# Altium footprint library EE311_footprints.PcbLib: 35 footprints (part 3 of 3)
Each footprint in its own frame and in the unit in brackets; x right, y up, seen from the top. Pads: shape width x height; smd on the part's side, far side on the other; paste and mask are expansions set on the pad; w line width, h text height; cw(c..) or ccw(c..) is an arc to the next point about the centre after c.
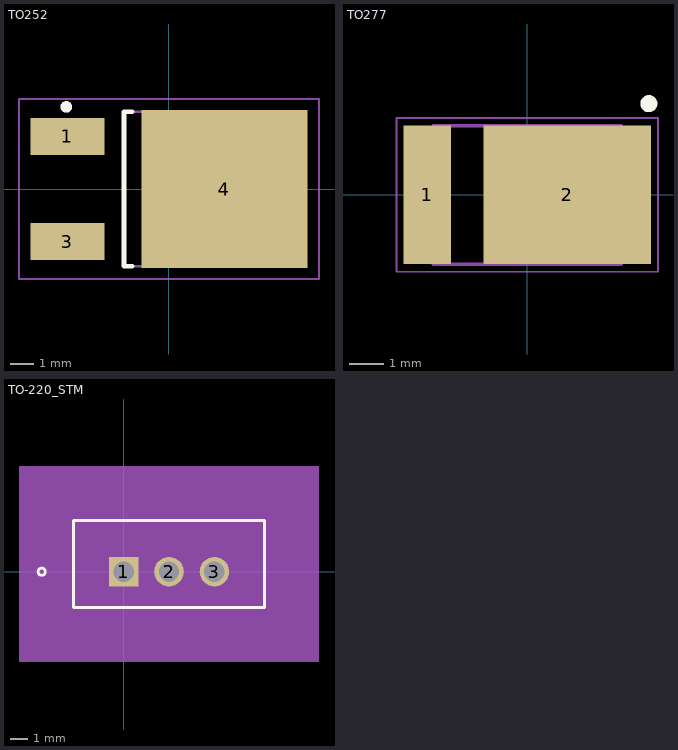
[diagram p2: the footprints below, top view; thin cyan lines are the x and y axes]

## TO252 [mm] "D-PAK, 4-Leads, Body 6.1x6.5mm, Pitch 2.28mm, Lead Span 9.7mm, IPC Low Density"
height 2.38
pads (3):
  rect 3.2x1.6 smd: 1(-4.392,2.28) 3(-4.392,-2.28)
  rect 7.2x6.85 smd: 4(2.408,0)
Top Overlay:
  circle w0.25: c-4.445,3.556 r0.125
  lines w0.2: -1.592,-3.35 -1.942,-3.35 -1.942,3.35 -1.592,3.35
Mechanical 13:
  lines w0.1: -1.942,-3.35 4.258,-3.35 4.258,3.35 -1.942,3.35 -1.942,-3.35
Mechanical 15:
  lines w0.1: -0.492,0 0.508,0 ; 0.008,-0.5 0.008,0.5 ; -6.492,-3.9 6.508,-3.9 6.508,3.9 -6.492,3.9 -6.492,-3.9
3D body: height 2.38, standoff 0, extent -1.942,-3.35 4.258,3.35

## TO277 [mm] "PowerDI Package"
height 1.1
pads (2):
  rect 1.4x4.05 smd: 1(-2.925,0)
  rect 4.9x4.05 smd: 2(1.175,0)
Top Overlay:
  circle w0.25: c3.556,2.667 r0.125
Mechanical 13:
  lines w0.1: -2.75,-2.025 2.75,-2.025 2.75,2.025 -2.75,2.025 -2.75,-2.025
Mechanical 15:
  lines w0.05: -3.825,-2.25 3.825,-2.25 3.825,2.25 -3.825,2.25 -3.825,-2.25
  lines w0.1: -0.5,0 0.5,0 ; 0,-0.5 0,0.5
3D body: height 1.1, standoff 0, extent -2.75,-2.025 2.75,2.025

## TO-220_STM [mil]
pads (3):
  rect 65x65 hole 45: 1(0,0)
  round 65 hole 45: 2(100,0) 3(200,0)
Top Overlay:
  circle w6: c-180,0 r8
  lines w6: -110,-78.5 -110,112.5 310,112.5 310,-78.5 -110,-78.5
Mechanical 5:
  region: -230,232.5 430,232.5 430,-198.5 -230,-198.5
Mechanical 7:
  lines w1: -170,-73.5 -105,-73.5 ; -170,107.5 -105,107.5 ; -105,17 -105,172.5 ; -50,-123.5 0,-123.5 ; 0,-138.5 0,0 ; 100,-138.5 100,0 ; 150,-123.5 100,-123.5 ; 305,17 305,172.5 ; -155,-73.5 -150,-63.5 -160,-63.5 -155,-73.5 ; -155,-73.5 -155,107.5 ; -155,107.5 -150,97.5 -160,97.5 -155,107.5 ; -105,157.5 -95,152.5 -95,162.5 -105,157.5 ; -105,157.5 305,157.5 ; 0,-123.5 -10,-128.5 -10,-118.5 0,-123.5 ; 100,-123.5 110,-128.5 110,-118.5 100,-123.5 ; 305,157.5 295,152.5 295,162.5 305,157.5
  text "0.1in/2.54mm" at -25,-168.5 h25
  text "0.181in/4.597mm" at -362.5,4.5 h25
  text "0.41in/10.414mm" at 6.25,177.5 h25
  text "Alt 2 Padstyle: OX90Y60D30P" at -237.5,-453.5 h50
  text "Alt 1 Padstyle: OX60Y90D30P" at -237.5,-393.5 h50
  text "Pin 1 Padstyle: SX65Y65D45P" at -237.5,-333.5 h50
  text "Default Padstyle: EX65Y65D45P" at -262.5,-273.5 h50
Mechanical 13:
  circle w0: c-85,0 r8
  lines w1: -105,-73.5 -105,107.5 305,107.5 305,-73.5 -105,-73.5
  lines w6: -10,0 10,0 ; 0,-10 0,10
Mechanical 15:
  region: 315,-83.5 -115,-83.5 -115,117.5 315,117.5
  lines w6: -115,-83.5 315,-83.5 315,117.5 -115,117.5 -115,-83.5
3D body: height 10, standoff 0, extent 0,0 10,10